# Altium footprint library 110-00315-D_B1-DevKit.PcbLib: 70 footprints (part 2 of 5)
Each footprint in its own frame and in the unit in brackets; x right, y up, seen from the top. Pads: shape width x height; smd on the part's side, far side on the other; paste and mask are expansions set on the pad; w line width, h text height; cw(c..) or ccw(c..) is an arc to the next point about the centre after c.
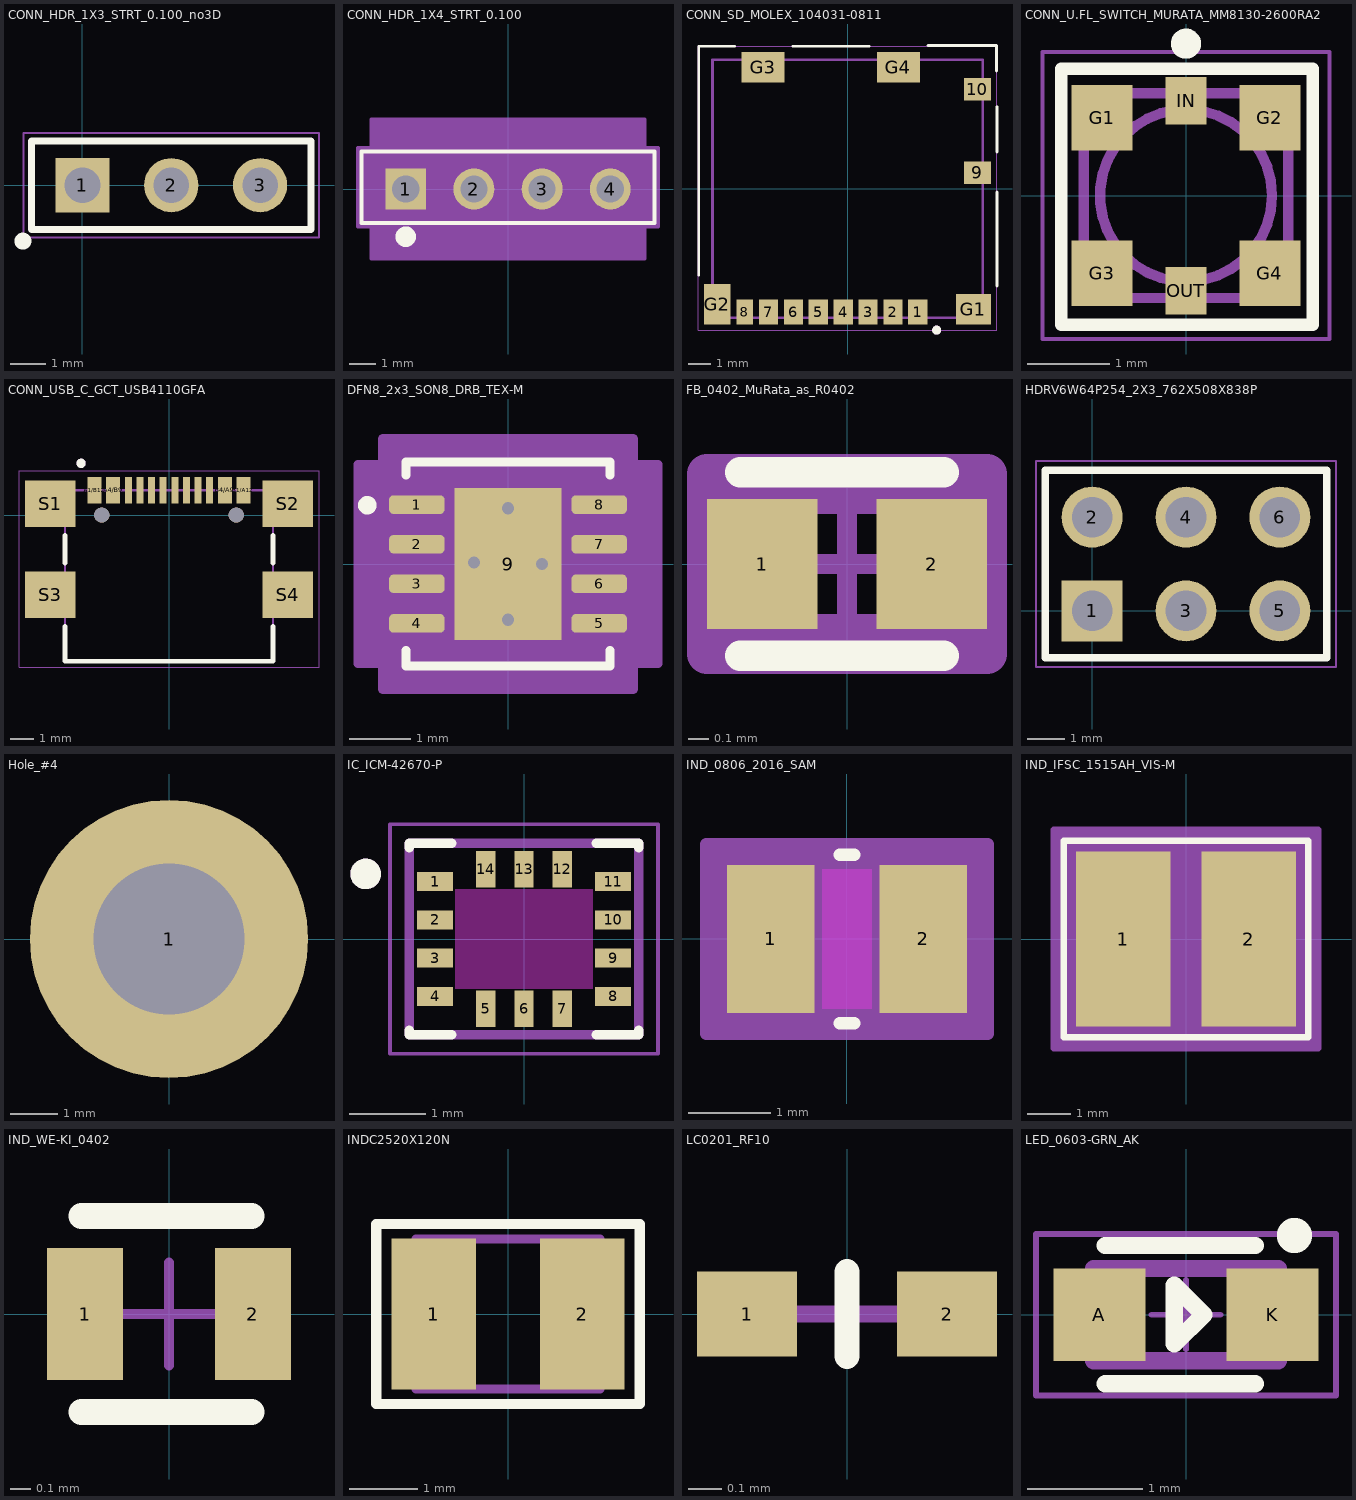
[diagram p1: the footprints below, top view; thin cyan lines are the x and y axes]

## CONN_HDR_1X3_STRT_0.100_no3D [mm] ".025 SQ Post Terminal Strip Assembly, 1x3 Pins, Vertical, 2.54mm Pitch, Male"
height 8.58
pads (3):
  rect 1.55x1.55 hole 1.02: 1(0,0)
  round 1.55 hole 1.02: 2(2.54,0) 3(5.08,0)
Top Overlay:
  circle w0.254: c-1.702,-1.6 r0.114
  lines w0.2: -1.46,-1.27 6.54,-1.27 6.54,1.27 -1.46,1.27 -1.46,-1.27
Top 3D Body:
  lines w0.1: -1.46,-1.27 6.54,-1.27 6.54,1.27 -1.46,1.27 -1.46,-1.27
Top Courtyard:
  lines w0.05: -1.685,-1.495 6.765,-1.495 6.765,1.495 -1.685,1.495 -1.685,-1.495

## CONN_HDR_1X4_STRT_0.100 [mil]
height 337.8
pads (4):
  rect 60x60 / inner round 60 / far side rect 60x60 hole 40 paste-99999 mask+0: 1(-150,0)
  round 60 hole 40 paste-99999 mask+0: 2(-50,0) 3(50,0) 4(150,0)
Top Overlay:
  circle w20: c-150,-70 r5
  lines w6: -215,-50 215,-50 215,55 -215,55 -215,-50
Mechanical 13:
  circle w0: c-150,0 r10
  lines w1: -210,-45 210,-45 210,50 -210,50 -210,-45
Mechanical 15:
  region: 220,60 200,60 200,102 -200,102 -200,60 -220,60 -220,-55 -200,-55 -200,-102 200,-102 200,-55 220,-55
  lines w6: -220,-55 -220,60 -200,60 -200,102 200,102 200,60 220,60 220,-55 200,-55 200,-102 -200,-102 -200,-55 -220,-55
3D body "TSW-104-07-L-S.step": height 330, standoff -100, extent -203.5,-48 201.5,52

## CONN_SD_MOLEX_104031-0811 [mm]
height 8.58
pads (14):
  rect 0.85x1.1 smd: 1(3.105,-5.45) 2(2.005,-5.45) 3(0.905,-5.45) 4(-0.195,-5.45) 5(-1.295,-5.45) 6(-2.395,-5.45) 7(-3.495,-5.45)
  rect 0.75x1.1 smd: 8(-4.545,-5.45)
  rect 1.2x1 smd: 9(5.74,0.7) 10(5.74,4.4)
  rect 1.55x1.35 smd: G1(5.565,-5.325)
  rect 1.17x1.8 smd: G2(-5.755,-5.1)
  rect 1.9x1.35 smd: G3(-3.73,5.375) G4(2.24,5.375)
Top Overlay:
  circle w0.2: c3.937,-6.248 r0.1
  lines w0.127: -6.579,-3.806 -6.579,6.299 -5.003,6.299 ; -2.413,6.299 0.939,6.299 ; 3.556,6.325 6.579,6.325 6.579,5.211 ; 6.604,-4.293 6.604,-0.143 ; 6.604,1.626 6.604,3.626
Mechanical 13:
  circle w0.2: c3.937,-6.248 r0.1
  lines w0.127: -5.975,-5.7 -5.975,5.7 5.975,5.7 5.975,-5.7 -5.975,-5.7
Mechanical 15:
  lines w0.05: -6.59,-6.25 -6.59,6.3 6.59,6.3 6.59,-6.25 -6.59,-6.25
3D body "1040310811.stp": height 1.4, standoff -0.05, extent -6,-5.715 5.95,5.685

## CONN_U.FL_SWITCH_MURATA_MM8130-2600RA2 [mm]
pads (6):
  rect 0.75x0.8 smd paste-1 mask+0: G1(-1.025,0.95) G2(1.025,0.95) G3(-1.025,-0.95) G4(1.025,-0.95)
  rect 0.5x0.58 smd paste-1 mask+0: IN(0,1.16) OUT(0,-1.16)
Top Overlay:
  circle w0.254: c0,1.854 r0.057
  lines w0.152: -1.524,-1.575 -1.524,1.549 1.549,1.549 1.549,-1.575 -1.524,-1.575
Top Paste:
  region: 1.24,-1.354 0.652,-1.354 0.652,-0.55 1.24,-0.55
  region: -0.65,-1.352 -1.242,-1.352 -1.242,-0.55 -0.65,-0.55
  region: 1.24,0.551 0.651,0.551 0.651,1.35 1.24,1.35
  region: -0.65,0.55 -1.241,0.55 -1.241,1.35 -0.65,1.35
  region: 0.14,-1.353 -0.14,-1.353 -0.14,-1.07 0.14,-1.07
  region: 0.14,1.073 -0.14,1.073 -0.14,1.35 0.14,1.35
Top Solder:
  region: -0.65,-1.352 -1.403,-1.352 -1.403,-0.55 -0.65,-0.55
  region: 0.25,-1.452 -0.25,-1.452 -0.25,-0.87 0.25,-0.87
  region: 1.4,-1.352 0.651,-1.352 0.651,-0.55 1.4,-0.55
  region: 1.4,0.551 0.651,0.551 0.651,1.35 1.4,1.35
  region: 0.25,0.872 -0.251,0.872 -0.251,1.45 0.25,1.45
  region: -0.65,0.551 -1.403,0.551 -1.403,1.35 -0.65,1.35
Mechanical 13:
  circle w0.127: c0,0 r1.05
  lines w0.127: -1.25,-1.25 -1.25,1.25 1.25,1.25 1.25,-1.25 -1.25,-1.25
Mechanical 15:
  lines w0.05: -1.75,-1.75 -1.75,1.75 1.75,1.75 1.75,-1.75 -1.75,-1.75
3D body "MM8130-2600RA2.step": height 1.4, standoff 0, extent -1.25,-1.3 1.25,1.3

## CONN_USB_C_GCT_USB4110GFA [mm] "GCT_USB4110GFA, 16 pin, 100% SMT, 2 guide holes"
pads (18):
  rect 0.6x1.15 smd: A1/B12(-3.2,1.075) A4/B9(-2.4,1.075) B1/A12(3.2,1.075) B4/A9(2.4,1.075)
  rect 0.3x1.15 smd: A5(-1.25,1.075) A6(-0.25,1.075) A7(0.25,1.075) A8(1.25,1.075) B5(1.75,1.075) B6(0.75,1.075) B7(-0.75,1.075) B8(-1.75,1.075)
  rect 2.18x2 smd: S1(-5.11,0.5) S2(5.11,0.5) S3(-5.11,-3.43) S4(5.11,-3.43)
  round 0.65 hole 0.65 unplated: ""(-2.89,0) ""(2.89,0)
Top Overlay:
  circle w0.2: c-3.78,2.23 r0.1
  lines w0.2: -4.47,-4.79 -4.47,-6.28 4.47,-6.28 4.47,-4.79 ; -4.47,-2.07 -4.47,-0.86 ; 4.47,-2.07 4.47,-0.86
Mechanical 13:
  circle w0.2: c-3.78,2.23 r0.1
  lines w0.1: -4.47,-6.28 4.47,-6.28 4.47,1.07 -4.47,1.07 -4.47,-6.28
Mechanical 15:
  lines w0.05: -6.45,-6.53 -6.45,1.9 6.45,1.9 6.45,-6.53 -6.45,-6.53
3D body "step_temp.STEP": height 3.26, standoff -0.63, extent -5.65,-6.28 5.65,1.42

## DFN8_2x3_SON8_DRB_TEX-M [mil]
height 337.8
pads (9):
  rrect50% 36x12 smd paste+0 mask+0: 1(-59,38.39) 2(-59,12.8) 3(-59,-12.8) 4(-59,-38.39) 5(59,-38.39) 6(59,-12.8) 7(59,12.8) 8(59,38.39)
  rect 69x98 smd paste-35 mask+0: 9(0,0)
via 0,36 diameter 15 hole 8
via 0,-36 diameter 15 hole 8
via 22,0 diameter 15 hole 8
via -22,1 diameter 15 hole 8
Top Overlay:
  circle w6: c-91,38 r3
  lines w6: -66,-66 66,-66 ; -66,-64.51 -66,-56 ; -66,57.49 -66,66 66,66 66,57.49 ; 66,-64.51 66,-56
Top Paste:
  rectangle: -33,4 33,47
  rectangle: -33,-47 33,-4
Mechanical 13:
  circle w0: c-41,38.39 r3
  lines w0: -12,61 ccw(c0,61) 12,61
  lines w1: -61,-61 61,-61 61,61 -61,61 -61,-61
Mechanical 15:
  region: -81,-64.39 -97,-64.39 -97,64.39 -81,64.39 -81,81 81,81 81,64.39 97,64.39 97,-64.39 81,-64.39 81,-81 -81,-81
  lines w6: -97,-64.39 -97,64.39 -81,64.39 -81,81 81,81 81,64.39 97,64.39 97,-64.39 81,-64.39 81,-81 -81,-81 -81,-64.39 -97,-64.39
3D body "TCAN1044VDRBRQ1.step": height 39.37, standoff 0, extent -59.06,-59.06 59.06,59.06

## FB_0402_MuRata_as_R0402 [mm]
pads (2):
  rect 0.551x0.65 smd: 1(-0.424,0) 2(0.424,0)
Top Overlay:
  lines w0.152: -0.533,-0.457 0.483,-0.457 ; -0.533,0.457 0.483,0.457
Top 3D Body:
  lines w0.2: -0.55,-0.35 -0.55,0.35 0.55,0.35 0.55,-0.35 -0.55,-0.35
Top Assembly:
  lines w0.2: -0.7,-0.45 -0.7,0.45 0.7,0.45 0.7,-0.45 -0.7,-0.45
Top Courtyard:
  lines w0.2: -0.7,-0.45 -0.7,0.45 0.7,0.45 0.7,-0.45 -0.7,-0.45
Top Component Center:
  lines w0.1: -0.5,0 0.5,0 ; 0,-0.5 0,0.5
3D body "Ind_Murata_LQW15AN10NG00B_eec.STEP": height 0.6, standoff 0, extent -0.5,-0.3 0.5,0.3

## HDRV6W64P254_2X3_762X508X838P [mm]
height 8.58
pads (6):
  rect 1.65x1.65 hole 1.1: 1(0,0)
  round 1.65 hole 1.1: 2(0,2.54) 3(2.54,0) 4(2.54,2.54) 5(5.08,0) 6(5.08,2.54)
Top Overlay:
  lines w0.2: -1.27,-1.27 -1.27,3.81 6.35,3.81 6.35,-1.27 -1.27,-1.27
Mechanical 13:
  lines w0.1: -1.27,-1.27 -1.27,3.81 6.35,3.81 6.35,-1.27 -1.27,-1.27
Mechanical 15:
  lines w0.05: -1.52,-1.52 -1.52,4.06 6.6,4.06 6.6,-1.52 -1.52,-1.52
3D body "TSW-103-07-L-D.stp": height 8.38, standoff -2.54, extent -1.27,-1.321 6.35,3.759

## Hole_#4 [mil]
height 337.8
pads (1):
  round 230 hole 125: 1(0,0)
Bottom Overlay:
  circle w10: c0,0 r124

## IC_ICM-42670-P [mm]
height 8.58
pads (14):
  rect 0.475x0.25 smd mask+0: 1(-1.162,0.75) 2(-1.162,0.25) 3(-1.162,-0.25) 4(-1.162,-0.75) 8(1.162,-0.75) 9(1.162,-0.25) 10(1.162,0.25) 11(1.162,0.75)
  rect 0.25x0.475 smd mask+0: 5(-0.5,-0.913) 6(0,-0.913) 7(0.5,-0.913) 12(0.5,0.913) 13(0,0.913) 14(-0.5,0.913)
Top Overlay:
  circle w0.2: c-2.069,0.85 r0.1
  lines w0.127: -1.5,-1.195 -1.5,-1.25 -0.945,-1.25 ; -1.5,1.195 -1.5,1.25 -0.945,1.25 ; 0.945,-1.25 1.5,-1.25 1.5,-1.195 ; 0.945,1.25 1.5,1.25 1.5,1.195
Top Solder:
  region: -0.875,0.075 -1.45,0.075 -1.45,0.425 -0.875,0.425
  region: -0.875,0.575 -1.45,0.575 -1.45,0.925 -0.875,0.925
  region: -0.875,-0.425 -1.45,-0.425 -1.45,-0.075 -0.875,-0.075
  region: -0.875,-0.925 -1.45,-0.925 -1.45,-0.575 -0.875,-0.575
  region: 1.45,0.575 0.875,0.575 0.875,0.925 1.45,0.925
  region: 1.45,0.075 0.875,0.075 0.875,0.425 1.45,0.425
  region: 1.45,-0.425 0.875,-0.425 0.875,-0.075 1.45,-0.075
  region: 1.45,-0.925 0.875,-0.925 0.875,-0.575 1.45,-0.575
  region: 0.175,0.625 -0.175,0.625 -0.175,1.2 0.175,1.2
  region: 0.175,-1.2 -0.175,-1.2 -0.175,-0.625 0.175,-0.625
  region: -0.325,0.625 -0.675,0.625 -0.675,1.2 -0.325,1.2
  region: 0.675,0.625 0.325,0.625 0.325,1.2 0.675,1.2
  region: -0.325,-1.2 -0.675,-1.2 -0.675,-0.625 -0.325,-0.625
  region: 0.675,-1.2 0.325,-1.2 0.325,-0.625 0.675,-0.625
Keep-Out Layer:
  region: 0.9,-0.65 -0.9,-0.65 -0.9,0.65 0.9,0.65
Mechanical 13:
  circle w0.2: c-2.069,0.85 r0.1
  lines w0.127: -1.5,-1.25 -1.5,1.25 1.5,1.25 1.5,-1.25 -1.5,-1.25
Mechanical 15:
  lines w0.05: -1.75,-1.5 -1.75,1.5 1.75,1.5 1.75,-1.5 -1.75,-1.5
3D body "step_temp.STEP": height 0.81, standoff 0, extent -1.5,-1.25 1.5,1.25

## IND_0806_2016_SAM [mil]
pads (2):
  rect 42x71 smd paste+0 mask+0: 1(-36.5,0) 2(36.5,0)
Top Layer keep-out:
  region: -12,-33.5 -12,33.5 12,33.5 12,-33.5
Top Overlay:
  lines w6: -3.39,-40.5 3.39,-40.5 ; -3.39,40.5 3.39,40.5
Mechanical 13:
  lines w1: -43.5,-35.5 -43.5,35.5 ; -43.5,-35.5 43.5,-35.5 ; -43.5,-35.5 -15.5,-35.5 -15.5,35.5 -43.5,35.5 ; -43.5,-35.5 -43.5,35.5 ; -43.5,35.5 43.5,35.5 ; 43.5,-35.5 43.5,35.5 ; 43.5,-35.5 43.5,35.5 ; 43.5,-35.5 15.5,-35.5 15.5,35.5 43.5,35.5
Mechanical 15:
  region: 67.5,-45.5 -67.5,-45.5 -67.5,45.5 67.5,45.5
  lines w6: -67.5,-45.5 67.5,-45.5 67.5,45.5 -67.5,45.5 -67.5,-45.5
3D body "RES_CIGT201610_SAM.step": height 39.02, standoff 0, extent -43.5,-35.51 43.5,35.51

## IND_IFSC_1515AH_VIS-M [mil]
pads (2):
  rect 87x160 smd paste+0: 1(-57.5,0) 2(57.5,0)
Top Overlay:
  lines w6: -112,-90 -112,90 112,90 112,-90 -112,-90
Mechanical 5:
  region: 116,-95 -116,-95 -116,95 116,95
Mechanical 13:
  circle w0: c-52.5,0 r3
  lines w1: -79,-79 -79,79 ; -79,-79 -14,-79 -14,79 -79,79 ; -79,-79 79,-79 ; -79,-79 -79,79 ; -79,79 79,79 ; 79,-79 14,-79 14,79 79,79 ; 79,-79 79,79 ; 79,-79 79,79
Mechanical 15:
  region: 121,-100 -121,-100 -121,100 121,100
  lines w6: -121,-100 -121,100 121,100 121,-100 -121,-100
3D body "ASPI-0418FS-220M-T3--3DModel-STEP-400430.STEP": height 70.87, standoff 0, extent -78.74,-78.74 78.74,78.74

## IND_WE-KI_0402 [mm] "SMD Wire Wound Ceramic Inductor, body 1.00x0.55mm"
height 0.6
pads (2):
  rect 0.375x0.65 smd: 1(-0.413,0) 2(0.413,0)
Top Overlay:
  lines w0.127: -0.432,-0.483 0.406,-0.483 ; -0.432,0.483 0.406,0.483
Top Courtyard:
  lines w0.05: -0.5,0 0.5,0 ; 0,-0.254 0,0.254
3D body: height 0.71, standoff 0, extent -0.508,-0.279 -0.305,0.279
3D body: height 0.71, standoff 0, extent 0.305,-0.279 0.508,0.279
3D body "STEP-WE-KI-0402A-rev1.stp": height 0.58, standoff 0.01, extent -0.5,-0.275 0.5,0.275

## INDC2520X120N [mm]
pads (2):
  rect 1.24x2.22 smd paste+0: 1(-1.09,0) 2(1.09,0)
Top Overlay:
  lines w0.152: -1.93,-1.321 -1.93,1.321 1.93,1.321 1.93,-1.321 -1.93,-1.321
Mechanical 13:
  lines w0.127: -1.35,-1.1 -1.35,1.1 1.35,1.1 1.35,-1.1 -1.35,-1.1
Mechanical 15:
  lines w0.05: -1.958,-1.358 -1.958,1.358 1.958,1.358 1.958,-1.358 -1.958,-1.358
3D body "DFE252012F-2R2M=P2.STEP": height 1.2, standoff 0, extent -1.25,-1 1.25,1

## LC0201_RF10 [mm] "SMD Multilayer Ceramic Inductor, body 0.60x0.30mm, 10mil wide pad"
height 0.33
pads (2):
  rect 0.3x0.254 smd: 1(-0.3,0) 2(0.3,0)
Top Overlay:
  lines w0.076: 0,-0.127 0,0.127
Top Courtyard:
  lines w0.05: -0.25,0 0.25,0 ; 0,-0.127 0,0.127
3D body: height 0.33, standoff 0, extent -0.178,-0.127 0.152,0.127
3D body: height 0.33, standoff 0, extent -0.302,-0.127 -0.152,0.127
3D body: height 0.33, standoff 0, extent 0.152,-0.127 0.302,0.127

## LED_0603-GRN_AK [mm] "SMT LED 0603 Green"
height 0.45
pads (2):
  rect 0.8x0.8 smd: A(-0.75,0) K(0.75,0)
Top Overlay:
  circle w0.254: c0.94,0.686 r0.025
  lines w0.15: -0.7,-0.6 0.6,-0.6 ; -0.7,0.6 0.6,0.6
  lines w0.152: -0.102,-0.254 -0.102,0.051 -0.102,0.254 0.152,0 -0.102,-0.254
Top 3D Body:
  lines w0.15: -0.8,-0.4 -0.8,0.4 0.8,0.4 0.8,-0.4 -0.8,-0.4
Top Courtyard:
  lines w0.05: -0.3,0 0,0 0.3,0 ; 0,-0.3 0,0.3 ; -1.3,-0.7 -1.3,0.7 1.3,0.7 1.3,-0.7 -1.3,-0.7
3D body "LED0603_GRN.stp": height 0.8, standoff 0, extent -0.8,-0.4 0.8,0.4